# Altium footprint library ESP32.PcbLib: 1 footprints
Each footprint in its own frame and in the unit in brackets; x right, y up, seen from the top. Pads: shape width x height; smd on the part's side, far side on the other; paste and mask are expansions set on the pad; w line width, h text height; cw(c..) or ccw(c..) is an arc to the next point about the centre after c.
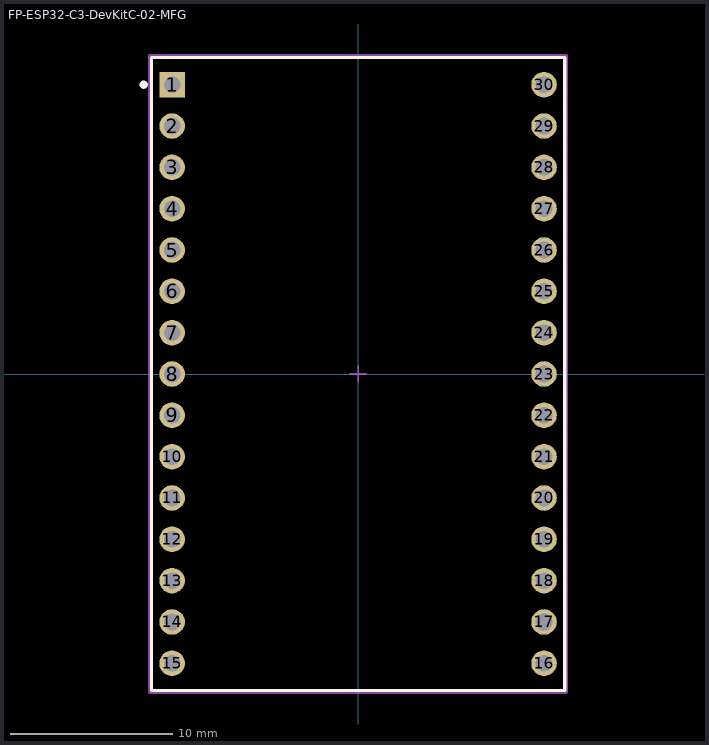
[diagram p0: the footprint, top view; thin cyan lines are the x and y axes]

## FP-ESP32-C3-DevKitC-02-MFG [mm]
pads (30):
  rect 1.57x1.57 hole 1.02 paste-2539.97 mask+0: 1(-11.43,17.78)
  round 1.57 hole 1.02 paste-2539.97 mask+0: 2(-11.43,15.24) 3(-11.43,12.7) 4(-11.43,10.16) 5(-11.43,7.62) 6(-11.43,5.08) 7(-11.43,2.54) 8(-11.43,0) 9(-11.43,-2.54) 10(-11.43,-5.08) 11(-11.43,-7.62) 12(-11.43,-10.16) 13(-11.43,-12.7) 14(-11.43,-15.24) 15(-11.43,-17.78) 16(11.43,-17.78) 17(11.43,-15.24) 18(11.43,-12.7) 19(11.43,-10.16) 20(11.43,-7.62) 21(11.43,-5.08) 22(11.43,-2.54) 23(11.43,0) 24(11.43,2.54) 25(11.43,5.08) 26(11.43,7.62) 27(11.43,10.16) 28(11.43,12.7) 29(11.43,15.24) 30(11.43,17.78)
Top Overlay:
  circle w0.25: c-13.175,17.78 r0.125
  lines w0.2: -12.7,-19.455 12.7,-19.455 12.7,19.455 -12.7,19.455 -12.7,-19.455
Top Assembly:
  lines w0.2: -12.8,-19.555 12.8,-19.555 12.8,19.555 -12.8,19.555 -12.8,-19.555
  text ".Designator" at 0,-0.001 h1
Top 3D Body:
  lines w0.2: -12.7,-19.455 12.7,-19.455 12.7,19.455 -12.7,19.455 -12.7,-19.455
Top Courtyard:
  lines w0.2: -12.8,-19.555 12.8,-19.555 12.8,19.555 -12.8,19.555 -12.8,-19.555
Top Component Center:
  lines w0.1: -0.5,0 0.5,0 ; 0,-0.5 0,0.5
3D body "UNK_Espressif_Systems_ESP32-C3-DevKitC-02_eec.STEP": height 0.25, standoff 0, extent -12.8,-19.555 12.8,19.555